# Altium footprint library IPC.PcbLib: 87 footprints (part 3 of 6)
Each footprint in its own frame and in the unit in brackets; x right, y up, seen from the top. Pads: shape width x height; smd on the part's side, far side on the other; paste and mask are expansions set on the pad; w line width, h text height; cw(c..) or ccw(c..) is an arc to the next point about the centre after c.
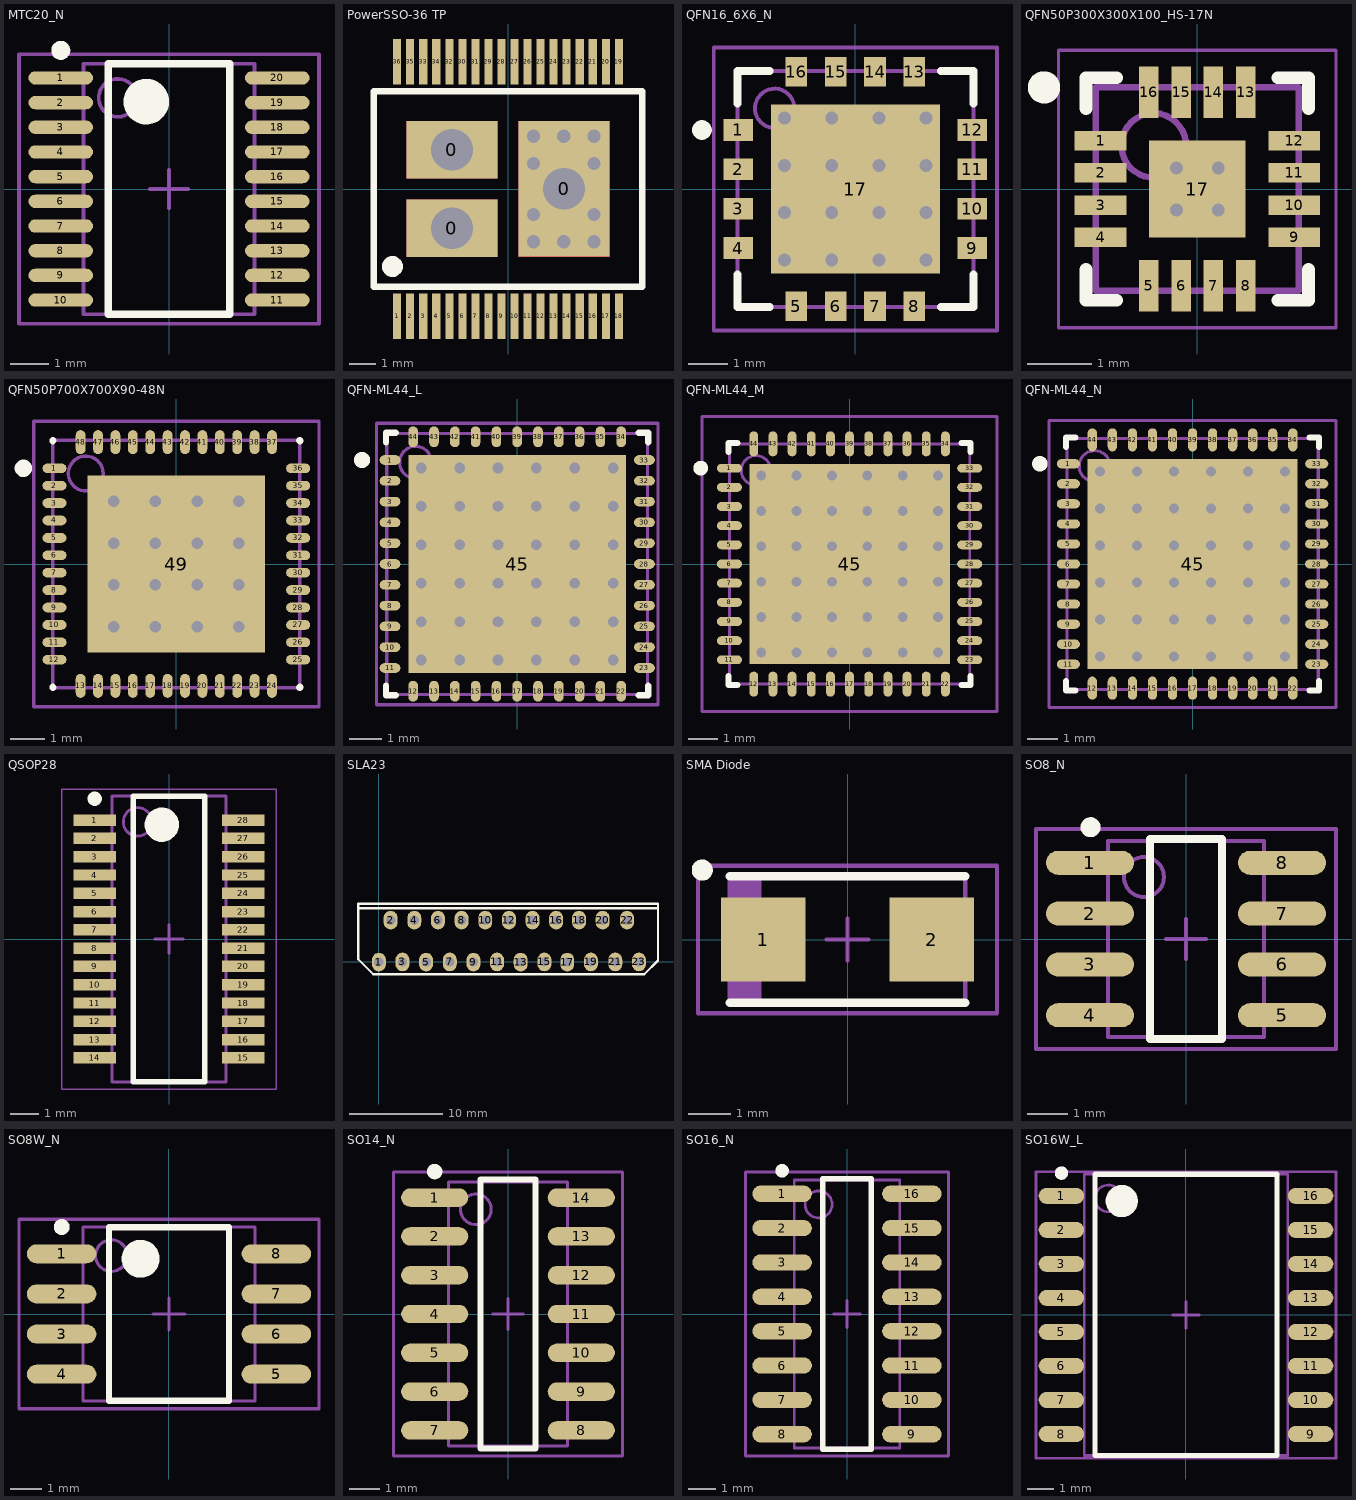
[diagram p2: the footprints below, top view; thin cyan lines are the x and y axes]

## MTC20_N [mm] "TSOP, 20-Leads, Body 6.5x4.4mm, Pitch 0.65mm, IPC Medium Density"
height 1.1
pads (20):
  oval 1.7x0.35 smd: 1(-2.85,2.925) 2(-2.85,2.275) 3(-2.85,1.625) 4(-2.85,0.975) 5(-2.85,0.325) 6(-2.85,-0.325) 7(-2.85,-0.975) 8(-2.85,-1.625) 9(-2.85,-2.275) 10(-2.85,-2.925) 11(2.85,-2.925) 12(2.85,-2.275) 13(2.85,-1.625) 14(2.85,-0.975) 15(2.85,-0.325) 16(2.85,0.325) 17(2.85,0.975) 18(2.85,1.625) 19(2.85,2.275) 20(2.85,2.925)
Top Overlay:
  circle w0.6: c-0.6,2.3 r0.3
  circle w0.25: c-2.85,3.65 r0.125
  lines w0.2: -1.6,-3.3 1.6,-3.3 1.6,3.3 -1.6,3.3 -1.6,-3.3
3D Bodie:
  circle w0.1: c-1.35,2.4 r0.5
  lines w0.1: -2.25,-3.3 2.25,-3.3 2.25,3.3 -2.25,3.3 -2.25,-3.3
Mechanical 15:
  lines w0.1: -0.5,0 0.5,0 ; 0,-0.5 0,0.5 ; -3.95,-3.55 3.95,-3.55 3.95,3.55 -3.95,3.55 -3.95,-3.55
3D body: height 1.1, standoff 0, extent -2.25,-3.3 2.25,3.3
3D body: height 1.2, standoff 0, extent -3.248,-3.3 3.302,3.3

## PowerSSO-36 TP [mm] "PowerSSO-36 TP"
height 2.47
pads (39):
  rect 3.5x2.2 hole 1.6: 0(-2.15,-1.5) 0(-2.15,1.5)
  rect 3.5x5.2 hole 1.6: 0(2.15,0.01)
  rect 0.31x1.75 smd: 1(-4.25,-4.875) 2(-3.75,-4.875) 3(-3.25,-4.875) 4(-2.75,-4.875) 5(-2.25,-4.875) 6(-1.75,-4.875) 7(-1.25,-4.875) 8(-0.75,-4.875) 9(-0.25,-4.875) 10(0.25,-4.875) 11(0.75,-4.875) 12(1.25,-4.875) 13(1.75,-4.875) 14(2.25,-4.875) 15(2.75,-4.875) 16(3.25,-4.875) 17(3.75,-4.875) 18(4.25,-4.875) 19(4.25,4.875) 20(3.75,4.875) 21(3.25,4.875) 22(2.75,4.875) 23(2.25,4.875) 24(1.75,4.875) 25(1.25,4.875) 26(0.75,4.875) 27(0.25,4.875) 28(-0.25,4.875) 29(-0.75,4.875) 30(-1.75,4.875) 31(-1.25,4.875) 32(-2.25,4.875) 33(-3.25,4.875) 34(-2.75,4.875) 35(-3.75,4.875) 36(-4.25,4.875)
via 3.3,0.98 diameter 1.016 hole 0.508
via 0.98,0.98 diameter 1.016 hole 0.508
via 0.98,2.02 diameter 1.016 hole 0.508
via 3.3,2.02 diameter 1.016 hole 0.508
via 2.14,2.02 diameter 1.016 hole 0.508
via 3.3,-0.98 diameter 1.016 hole 0.508
via 0.98,-0.98 diameter 1.016 hole 0.508
via 0.98,-2.02 diameter 1.016 hole 0.508
via 3.3,-2.02 diameter 1.016 hole 0.508
via 2.14,-2.02 diameter 1.016 hole 0.508
Top Layer:
  rectangle: -3.9,-2.6 -0.4,-0.4
  rectangle: -3.9,0.4 -0.4,2.6
  rectangle: 0.4,-2.6 3.9,2.6
Bottom Layer:
  rectangle: 0.4,-2.6 3.9,2.6
  rectangle: -3.9,-2.6 -0.4,-0.4
  rectangle: -3.9,0.4 -0.4,2.6
Top Overlay:
  circle w0.4: c-4.43,-2.97 r0.2
  lines w0.254: -5.15,-3.75 -5.15,3.75 5.15,3.75 5.15,-3.75 -5.15,-3.75
3D body: height 2.33, standoff 0, extent -5.15,-5.169 5.15,5.169

## QFN16_6X6_N [mm] "QFN, 16-Leads, Body 6,0x6,0mm (max), Pitch 1,00mm, IPC Medium Density"
height 1.55
pads (17):
  rect 0.75x0.55 smd: 1(-2.975,1.5) 2(-2.975,0.5) 3(-2.975,-0.5) 4(-2.975,-1.5) 9(2.975,-1.5) 10(2.975,-0.5) 11(2.975,0.5) 12(2.975,1.5)
  rect 0.55x0.75 smd: 5(-1.5,-2.975) 6(-0.5,-2.975) 7(0.5,-2.975) 8(1.5,-2.975) 13(1.5,2.975) 14(0.5,2.975) 15(-0.5,2.975) 16(-1.5,2.975)
  rect 4.3x4.3 smd: 17(0,0)
via -1.8,1.8 diameter 0.66 hole 0.33
via -0.6,1.8 diameter 0.66 hole 0.33
via 0.6,1.8 diameter 0.66 hole 0.33
via 1.8,1.8 diameter 0.66 hole 0.33
via -1.8,0.6 diameter 0.66 hole 0.33
via -0.6,0.6 diameter 0.66 hole 0.33
via 0.6,0.6 diameter 0.66 hole 0.33
via 1.8,0.6 diameter 0.66 hole 0.33
via -1.8,-0.6 diameter 0.66 hole 0.33
via -0.6,-0.6 diameter 0.66 hole 0.33
via 0.6,-0.6 diameter 0.66 hole 0.33
via 1.8,-0.6 diameter 0.66 hole 0.33
via -1.8,-1.8 diameter 0.66 hole 0.33
via -0.6,-1.8 diameter 0.66 hole 0.33
via 0.6,-1.8 diameter 0.66 hole 0.33
via 1.8,-1.8 diameter 0.66 hole 0.33
Top Overlay:
  circle w0.25: c-3.9,1.5 r0.125
  lines w0.2: -3,-2.175 -3,-3 -2.175,-3 ; -3,2.175 -3,3 -2.175,3 ; 2.175,-3 3,-3 3,-2.175 ; 2.175,3 3,3 3,2.175
3D Bodie:
  circle w0.1: c-2.05,2.05 r0.5
  lines w0.1: -3,-3 -3,3 3,3 3,-3 -3,-3
Mechanical 15:
  lines w0.1: -0.5,0 0.5,0 ; 0,-0.5 0,0.5 ; -3.6,-3.6 -3.6,3.6 3.6,3.6 3.6,-3.6 -3.6,-3.6
3D body: height 1.55, standoff 0.01, extent -3,-3 3,3

## QFN50P300X300X100_HS-17N [mm] "QFN, 16-Leads, Body 3,00x3,00mm, Pitch 0,50mm, Thermal Pad 1,80x1,80mm, IPC Medium Density"
height 1
pads (17):
  rect 0.8x0.3 smd: 1(-1.5,0.75) 2(-1.5,0.25) 3(-1.5,-0.25) 4(-1.5,-0.75) 9(1.5,-0.75) 10(1.5,-0.25) 11(1.5,0.25) 12(1.5,0.75)
  rect 0.3x0.8 smd: 5(-0.75,-1.5) 6(-0.25,-1.5) 7(0.25,-1.5) 8(0.75,-1.5) 13(0.75,1.5) 14(0.25,1.5) 15(-0.25,1.5) 16(-0.75,1.5)
  rect 1.5x1.5 smd: 17(0,0)
via 0.325,-0.325 diameter 0.5 hole 0.2
via -0.325,-0.325 diameter 0.5 hole 0.2
via 0.325,0.325 diameter 0.5 hole 0.2
via -0.325,0.325 diameter 0.5 hole 0.2
Top Overlay:
  circle w0.25: c-2.375,1.575 r0.125
  lines w0.2: -1.725,-1.25 -1.725,-1.725 -1.25,-1.725 ; -1.725,1.25 -1.725,1.725 -1.25,1.725 ; 1.25,-1.725 1.725,-1.725 1.725,-1.25 ; 1.25,1.725 1.725,1.725 1.725,1.25
3D Bodie:
  circle w0.1: c-0.675,0.675 r0.5
  lines w0.1: -1.575,-1.575 1.575,-1.575 1.575,1.575 -1.575,1.575 -1.575,-1.575
Mechanical 15:
  lines w0.05: -2.15,-2.15 2.15,-2.15 2.15,2.15 -2.15,2.15 -2.15,-2.15
  lines w0.1: -0.5,0 0.5,0 ; 0,-0.5 0,0.5
3D body: height 1, standoff 0.02, extent -1.575,-1.575 1.575,1.575

## QFN50P700X700X90-48N [mm] "QFN, 48-Leads, Body 7,1x7,1mm (max), Pitch 0,50mm, IPC Medium Density"
height 0.9
pads (49):
  oval 0.69x0.28 smd: 1(-3.5,2.75) 2(-3.5,2.25) 3(-3.5,1.75) 4(-3.5,1.25) 5(-3.5,0.75) 6(-3.5,0.25) 7(-3.5,-0.25) 8(-3.5,-0.75) 9(-3.5,-1.25) 10(-3.5,-1.75) 11(-3.5,-2.25) 12(-3.5,-2.75) 25(3.5,-2.75) 26(3.5,-2.25) 27(3.5,-1.75) 28(3.5,-1.25) 29(3.5,-0.75) 30(3.5,-0.25) 31(3.5,0.25) 32(3.5,0.75) 33(3.5,1.25) 34(3.5,1.75) 35(3.5,2.25) 36(3.5,2.75)
  oval 0.28x0.69 smd: 13(-2.75,-3.5) 14(-2.25,-3.5) 15(-1.75,-3.5) 16(-1.25,-3.5) 17(-0.75,-3.5) 18(-0.25,-3.5) 19(0.25,-3.5) 20(0.75,-3.5) 21(1.25,-3.5) 22(1.75,-3.5) 23(2.25,-3.5) 24(2.75,-3.5) 37(2.75,3.5) 38(2.25,3.5) 39(1.75,3.5) 40(1.25,3.5) 41(0.75,3.5) 42(0.25,3.5) 43(-0.25,3.5) 44(-0.75,3.5) 45(-1.25,3.5) 46(-1.75,3.5) 47(-2.25,3.5) 48(-2.75,3.5)
  rect 5.1x5.1 smd: 49(0,0)
via -1.8,1.8 diameter 0.66 hole 0.33
via -0.6,1.8 diameter 0.66 hole 0.33
via 0.6,1.8 diameter 0.66 hole 0.33
via 1.8,1.8 diameter 0.66 hole 0.33
via -1.8,0.6 diameter 0.66 hole 0.33
via -0.6,0.6 diameter 0.66 hole 0.33
via 0.6,0.6 diameter 0.66 hole 0.33
via 1.8,0.6 diameter 0.66 hole 0.33
via -1.8,-0.6 diameter 0.66 hole 0.33
via -0.6,-0.6 diameter 0.66 hole 0.33
via 0.6,-0.6 diameter 0.66 hole 0.33
via 1.8,-0.6 diameter 0.66 hole 0.33
via -1.8,-1.8 diameter 0.66 hole 0.33
via -0.6,-1.8 diameter 0.66 hole 0.33
via 0.6,-1.8 diameter 0.66 hole 0.33
via 1.8,-1.8 diameter 0.66 hole 0.33
Top Overlay:
  circle w0.25: c-4.395,2.75 r0.125
  lines w0.2: -3.55,-3.54 -3.55,-3.55 -3.54,-3.55 ; -3.55,3.54 -3.55,3.55 -3.54,3.55 ; 3.54,-3.55 3.55,-3.55 3.55,-3.54 ; 3.54,3.55 3.55,3.55 3.55,3.54
3D Bodie:
  circle w0.1: c-2.6,2.6 r0.5
  lines w0.1: -3.55,-3.55 -3.55,3.55 3.55,3.55 3.55,-3.55 -3.55,-3.55
Mechanical 15:
  lines w0.1: -0.5,0 0.5,0 ; 0,-0.5 0,0.5 ; -4.1,-4.1 -4.1,4.1 4.1,4.1 4.1,-4.1 -4.1,-4.1
3D body: height 0.9, standoff 0.01, extent -3.55,-3.55 3.55,3.55

## QFN-ML44_L [mm] "QFN, 44-Leads, Body 8x8 mm, Pitch 0.65mm, IPC High Density"
height 1
pads (45):
  oval 0.65x0.3 smd: 1(-3.975,3.25) 2(-3.975,2.6) 3(-3.975,1.95) 4(-3.975,1.3) 5(-3.975,0.65) 6(-3.975,0) 7(-3.975,-0.65) 8(-3.975,-1.3) 9(-3.975,-1.95) 10(-3.975,-2.6) 11(-3.975,-3.25) 23(3.975,-3.25) 24(3.975,-2.6) 25(3.975,-1.95) 26(3.975,-1.3) 27(3.975,-0.65) 28(3.975,0) 29(3.975,0.65) 30(3.975,1.3) 31(3.975,1.95) 32(3.975,2.6) 33(3.975,3.25)
  oval 0.3x0.65 smd: 12(-3.25,-3.975) 13(-2.6,-3.975) 14(-1.95,-3.975) 15(-1.3,-3.975) 16(-0.65,-3.975) 17(0,-3.975) 18(0.65,-3.975) 19(1.3,-3.975) 20(1.95,-3.975) 21(2.6,-3.975) 22(3.25,-3.975) 34(3.25,3.975) 35(2.6,3.975) 36(1.95,3.975) 37(1.3,3.975) 38(0.65,3.975) 39(0,3.975) 40(-0.65,3.975) 41(-1.3,3.975) 42(-1.95,3.975) 43(-2.6,3.975) 44(-3.25,3.975)
  rect 6.8x6.8 smd: 45(0,0)
via -3,3 diameter 0.66 hole 0.33
via -1.8,3 diameter 0.66 hole 0.33
via -0.6,3 diameter 0.66 hole 0.33
via 0.6,3 diameter 0.66 hole 0.33
via 1.8,3 diameter 0.66 hole 0.33
via 3,3 diameter 0.66 hole 0.33
via -3,1.8 diameter 0.66 hole 0.33
via -1.8,1.8 diameter 0.66 hole 0.33
via -0.6,1.8 diameter 0.66 hole 0.33
via 0.6,1.8 diameter 0.66 hole 0.33
via 1.8,1.8 diameter 0.66 hole 0.33
via 3,1.8 diameter 0.66 hole 0.33
via -3,0.6 diameter 0.66 hole 0.33
via -1.8,0.6 diameter 0.66 hole 0.33
via -0.6,0.6 diameter 0.66 hole 0.33
via 0.6,0.6 diameter 0.66 hole 0.33
via 1.8,0.6 diameter 0.66 hole 0.33
via 3,0.6 diameter 0.66 hole 0.33
via -3,-0.6 diameter 0.66 hole 0.33
via -1.8,-0.6 diameter 0.66 hole 0.33
via -0.6,-0.6 diameter 0.66 hole 0.33
via 0.6,-0.6 diameter 0.66 hole 0.33
via 1.8,-0.6 diameter 0.66 hole 0.33
via 3,-0.6 diameter 0.66 hole 0.33
via -3,-1.8 diameter 0.66 hole 0.33
via -1.8,-1.8 diameter 0.66 hole 0.33
via -0.6,-1.8 diameter 0.66 hole 0.33
via 0.6,-1.8 diameter 0.66 hole 0.33
via 1.8,-1.8 diameter 0.66 hole 0.33
via 3,-1.8 diameter 0.66 hole 0.33
via -3,-3 diameter 0.66 hole 0.33
via -1.8,-3 diameter 0.66 hole 0.33
via -0.6,-3 diameter 0.66 hole 0.33
via 0.6,-3 diameter 0.66 hole 0.33
via 1.8,-3 diameter 0.66 hole 0.33
via 3,-3 diameter 0.66 hole 0.33
Top Overlay:
  circle w0.25: c-4.85,3.25 r0.125
  lines w0.2: -4.1,-3.8 -4.1,-4.1 -3.8,-4.1 ; -4.1,3.8 -4.1,4.1 -3.8,4.1 ; 3.8,-4.1 4.1,-4.1 4.1,-3.8 ; 3.8,4.1 4.1,4.1 4.1,3.8
3D Bodie:
  circle w0.1: c-3.175,3.175 r0.5
  lines w0.1: -4.075,-4.075 -4.075,4.075 4.075,4.075 4.075,-4.075 -4.075,-4.075
Mechanical 15:
  lines w0.1: -0.5,0 0.5,0 ; 0,-0.5 0,0.5 ; -4.4,-4.4 -4.4,4.4 4.4,4.4 4.4,-4.4 -4.4,-4.4
3D body: height 1, standoff 0, extent -4.075,-4.075 4.075,4.075
3D body: height 0.89, standoff 0, extent -4.013,-4.013 3.988,3.988

## QFN-ML44_M [mm] "QFN, 44-Leads, Body 8x8 mm, Pitch 0.65mm, IPC Low Density"
height 1
pads (45):
  oval 0.85x0.3 smd: 1(-4.075,3.25) 2(-4.075,2.6) 3(-4.075,1.95) 4(-4.075,1.3) 5(-4.075,0.65) 6(-4.075,0) 7(-4.075,-0.65) 8(-4.075,-1.3) 9(-4.075,-1.95) 10(-4.075,-2.6) 11(-4.075,-3.25) 23(4.075,-3.25) 24(4.075,-2.6) 25(4.075,-1.95) 26(4.075,-1.3) 27(4.075,-0.65) 28(4.075,0) 29(4.075,0.65) 30(4.075,1.3) 31(4.075,1.95) 32(4.075,2.6) 33(4.075,3.25)
  oval 0.3x0.85 smd: 12(-3.25,-4.075) 13(-2.6,-4.075) 14(-1.95,-4.075) 15(-1.3,-4.075) 16(-0.65,-4.075) 17(0,-4.075) 18(0.65,-4.075) 19(1.3,-4.075) 20(1.95,-4.075) 21(2.6,-4.075) 22(3.25,-4.075) 34(3.25,4.075) 35(2.6,4.075) 36(1.95,4.075) 37(1.3,4.075) 38(0.65,4.075) 39(0,4.075) 40(-0.65,4.075) 41(-1.3,4.075) 42(-1.95,4.075) 43(-2.6,4.075) 44(-3.25,4.075)
  rect 6.8x6.8 smd: 45(0,0)
via 3,-3 diameter 0.66 hole 0.33
via 1.8,-3 diameter 0.66 hole 0.33
via 0.6,-3 diameter 0.66 hole 0.33
via -0.6,-3 diameter 0.66 hole 0.33
via -1.8,-3 diameter 0.66 hole 0.33
via -3,-3 diameter 0.66 hole 0.33
via 3,-1.8 diameter 0.66 hole 0.33
via 1.8,-1.8 diameter 0.66 hole 0.33
via 0.6,-1.8 diameter 0.66 hole 0.33
via -0.6,-1.8 diameter 0.66 hole 0.33
via -1.8,-1.8 diameter 0.66 hole 0.33
via -3,-1.8 diameter 0.66 hole 0.33
via 3,-0.6 diameter 0.66 hole 0.33
via 1.8,-0.6 diameter 0.66 hole 0.33
via 0.6,-0.6 diameter 0.66 hole 0.33
via -0.6,-0.6 diameter 0.66 hole 0.33
via -1.8,-0.6 diameter 0.66 hole 0.33
via -3,-0.6 diameter 0.66 hole 0.33
via 3,0.6 diameter 0.66 hole 0.33
via 1.8,0.6 diameter 0.66 hole 0.33
via 0.6,0.6 diameter 0.66 hole 0.33
via -0.6,0.6 diameter 0.66 hole 0.33
via -1.8,0.6 diameter 0.66 hole 0.33
via -3,0.6 diameter 0.66 hole 0.33
via 3,1.8 diameter 0.66 hole 0.33
via 1.8,1.8 diameter 0.66 hole 0.33
via 0.6,1.8 diameter 0.66 hole 0.33
via -0.6,1.8 diameter 0.66 hole 0.33
via -1.8,1.8 diameter 0.66 hole 0.33
via -3,1.8 diameter 0.66 hole 0.33
via 3,3 diameter 0.66 hole 0.33
via 1.8,3 diameter 0.66 hole 0.33
via 0.6,3 diameter 0.66 hole 0.33
via -0.6,3 diameter 0.66 hole 0.33
via -1.8,3 diameter 0.66 hole 0.33
via -3,3 diameter 0.66 hole 0.33
Top Overlay:
  circle w0.25: c-5.05,3.25 r0.125
  lines w0.2: -4.1,-3.8 -4.1,-4.1 -3.8,-4.1 ; -4.1,3.8 -4.1,4.1 -3.8,4.1 ; 3.8,-4.1 4.1,-4.1 4.1,-3.8 ; 3.8,4.1 4.1,4.1 4.1,3.8
3D Bodie:
  circle w0.1: c-3.175,3.175 r0.5
  lines w0.1: -4.075,-4.075 4.075,-4.075 4.075,4.075 -4.075,4.075 -4.075,-4.075
Mechanical 15:
  lines w0.1: -0.5,0 0.5,0 ; 0,-0.5 0,0.5 ; -5,-5 5,-5 5,5 -5,5 -5,-5
3D body: height 0.89, standoff 0, extent -4.001,-4.013 4,3.988

## QFN-ML44_N [mm] "QFN, 44-Leads, Body 8x8 mm, Pitch 0.65mm, IPC Medium Density"
height 1
pads (45):
  oval 0.75x0.3 smd: 1(-4.025,3.25) 2(-4.025,2.6) 3(-4.025,1.95) 4(-4.025,1.3) 5(-4.025,0.65) 6(-4.025,0) 7(-4.025,-0.65) 8(-4.025,-1.3) 9(-4.025,-1.95) 10(-4.025,-2.6) 11(-4.025,-3.25) 23(4.025,-3.25) 24(4.025,-2.6) 25(4.025,-1.95) 26(4.025,-1.3) 27(4.025,-0.65) 28(4.025,0) 29(4.025,0.65) 30(4.025,1.3) 31(4.025,1.95) 32(4.025,2.6) 33(4.025,3.25)
  oval 0.3x0.75 smd: 12(-3.25,-4.025) 13(-2.6,-4.025) 14(-1.95,-4.025) 15(-1.3,-4.025) 16(-0.65,-4.025) 17(0,-4.025) 18(0.65,-4.025) 19(1.3,-4.025) 20(1.95,-4.025) 21(2.6,-4.025) 22(3.25,-4.025) 34(3.25,4.025) 35(2.6,4.025) 36(1.95,4.025) 37(1.3,4.025) 38(0.65,4.025) 39(0,4.025) 40(-0.65,4.025) 41(-1.3,4.025) 42(-1.95,4.025) 43(-2.6,4.025) 44(-3.25,4.025)
  rect 6.8x6.8 smd: 45(0,0)
via -3,3 diameter 0.66 hole 0.33
via -1.8,3 diameter 0.66 hole 0.33
via -0.6,3 diameter 0.66 hole 0.33
via 0.6,3 diameter 0.66 hole 0.33
via 1.8,3 diameter 0.66 hole 0.33
via 3,3 diameter 0.66 hole 0.33
via -3,1.8 diameter 0.66 hole 0.33
via -1.8,1.8 diameter 0.66 hole 0.33
via -0.6,1.8 diameter 0.66 hole 0.33
via 0.6,1.8 diameter 0.66 hole 0.33
via 1.8,1.8 diameter 0.66 hole 0.33
via 3,1.8 diameter 0.66 hole 0.33
via -3,0.6 diameter 0.66 hole 0.33
via -1.8,0.6 diameter 0.66 hole 0.33
via -0.6,0.6 diameter 0.66 hole 0.33
via 0.6,0.6 diameter 0.66 hole 0.33
via 1.8,0.6 diameter 0.66 hole 0.33
via 3,0.6 diameter 0.66 hole 0.33
via -3,-0.6 diameter 0.66 hole 0.33
via -1.8,-0.6 diameter 0.66 hole 0.33
via -0.6,-0.6 diameter 0.66 hole 0.33
via 0.6,-0.6 diameter 0.66 hole 0.33
via 1.8,-0.6 diameter 0.66 hole 0.33
via 3,-0.6 diameter 0.66 hole 0.33
via -3,-1.8 diameter 0.66 hole 0.33
via -1.8,-1.8 diameter 0.66 hole 0.33
via -0.6,-1.8 diameter 0.66 hole 0.33
via 0.6,-1.8 diameter 0.66 hole 0.33
via 1.8,-1.8 diameter 0.66 hole 0.33
via 3,-1.8 diameter 0.66 hole 0.33
via -3,-3 diameter 0.66 hole 0.33
via -1.8,-3 diameter 0.66 hole 0.33
via -0.6,-3 diameter 0.66 hole 0.33
via 0.6,-3 diameter 0.66 hole 0.33
via 1.8,-3 diameter 0.66 hole 0.33
via 3,-3 diameter 0.66 hole 0.33
Top Overlay:
  circle w0.25: c-4.95,3.25 r0.125
  lines w0.2: -4.1,-3.8 -4.1,-4.1 -3.8,-4.1 ; -4.1,3.8 -4.1,4.1 -3.8,4.1 ; 3.8,-4.1 4.1,-4.1 4.1,-3.8 ; 3.8,4.1 4.1,4.1 4.1,3.8
3D Bodie:
  circle w0.1: c-3.175,3.175 r0.5
  lines w0.1: -4.075,-4.075 -4.075,4.075 4.075,4.075 4.075,-4.075 -4.075,-4.075
Mechanical 15:
  lines w0.1: -0.5,0 0.5,0 ; 0,-0.5 0,0.5 ; -4.65,-4.65 -4.65,4.65 4.65,4.65 4.65,-4.65 -4.65,-4.65
3D body: height 1, standoff 0, extent -4.075,-4.075 4.075,4.075
3D body: height 0.89, standoff 0, extent -4.001,-3.988 4,4.013

## QSOP28 [mm] "SOP, 28-Leads, Body 9,89x3,89mm, Pitch 0,64mm, IPC Medium Density"
height 1.75
pads (28):
  rect 1.5x0.4 smd: 1(-2.6,4.16) 2(-2.6,3.52) 3(-2.6,2.88) 4(-2.6,2.24) 5(-2.6,1.6) 6(-2.6,0.96) 7(-2.6,0.32) 8(-2.6,-0.32) 9(-2.6,-0.96) 10(-2.6,-1.6) 11(-2.6,-2.24) 12(-2.6,-2.88) 13(-2.6,-3.52) 14(-2.6,-4.16) 15(2.6,-4.16) 16(2.6,-3.52) 17(2.6,-2.88) 18(2.6,-2.24) 19(2.6,-1.6) 20(2.6,-0.96) 21(2.6,-0.32) 22(2.6,0.32) 23(2.6,0.96) 24(2.6,1.6) 25(2.6,2.24) 26(2.6,2.88) 27(2.6,3.52) 28(2.6,4.16)
Top Overlay:
  circle w0.25: c-2.6,4.91 r0.125
  circle w0.6: c-0.25,4 r0.3
  lines w0.2: -1.25,-5 -1.25,5 1.25,5 1.25,-5 -1.25,-5
3D Bodie:
  circle w0.1: c-1.1,4.1 r0.5
  lines w0.1: -2,-5 -2,5 2,5 2,-5 -2,-5
Mechanical 15:
  lines w0.05: -3.75,-5.25 -3.75,5.25 3.75,5.25 3.75,-5.25 -3.75,-5.25
  lines w0.1: -0.5,0 0.5,0 ; 0,-0.5 0,0.5
3D body: height 1.75, standoff 0.1, extent -2,-5 2,5

## SLA23 [mm]
pads (23):
  oval 1.5x2 hole 1: 1(0,-0.01) 2(1.27,4.5) 3(2.54,0) 4(3.81,4.5) 5(5.08,-0.01) 6(6.35,4.5) 7(7.62,0) 8(8.89,4.5) 9(10.16,-0.01) 10(11.43,4.5) 11(12.7,0) 12(13.97,4.5) 13(15.24,-0.01) 14(16.51,4.5) 15(17.78,0) 16(19.05,4.5) 17(20.24,-0.01) 18(21.51,4.5) 19(22.78,0) 20(24.05,4.5) 21(25.4,0) 22(26.67,4.5) 23(27.94,0)
Top Overlay:
  lines w0.254: -2.24,5.79 29.96,5.79 ; -2.21,0.3 -0.6,-1.31 28.52,-1.31 29.99,0.16 29.99,6.25 -2.21,6.25 -2.21,0.3

## SMA Diode [mm] "Case 403D-02"
height 2.41
pads (2):
  rect 2x2 smd: 1(-2,0) 2(2,0)
Top Overlay:
  circle w0.25: c-3.45,1.65 r0.125
  lines w0.2: -2.8,-1.5 2.8,-1.5 ; -2.8,1.5 2.8,1.5
3D Bodie:
  rectangle: -2.795,-1.46 -2.043,1.46
  lines w0.1: -2.795,-1.46 2.795,-1.46 2.795,1.46 -2.795,1.46 -2.795,-1.46
Mechanical 15:
  lines w0.1: -0.5,0 0.5,0 ; 0,-0.5 0,0.5 ; -3.55,-1.75 3.55,-1.75 3.55,1.75 -3.55,1.75 -3.55,-1.75
3D body: height 2.41, standoff 0, extent -2.795,-1.46 2.795,1.46
3D body: height 2.4, standoff 0, extent -2.6,-1.295 2.6,1.305

## SO8_N [mm] "8-Pin Small Outline Integrated Circuit 1.27 mm Pitch, IPC Medium Density"
height 1.75
pads (8):
  oval 2.2x0.6 smd: 1(-2.4,1.905) 2(-2.4,0.635) 3(-2.4,-0.635) 4(-2.4,-1.905) 5(2.4,-1.905) 6(2.4,-0.635) 7(2.4,0.635) 8(2.4,1.905)
Top Overlay:
  circle w0.25: c-2.386,2.794 r0.125
  lines w0.2: -0.9,-2.5 0.9,-2.5 0.9,2.5 -0.9,2.5 -0.9,-2.5
3D Bodie:
  circle w0.1: c-1.05,1.55 r0.5
  lines w0.1: -1.95,-2.45 1.95,-2.45 1.95,2.45 -1.95,2.45 -1.95,-2.45
Mechanical 15:
  lines w0.1: -0.5,0 0.5,0 ; 0,-0.5 0,0.5 ; -3.75,-2.75 3.75,-2.75 3.75,2.75 -3.75,2.75 -3.75,-2.75
3D body: height 1.75, standoff 0, extent -1.95,-2.45 1.95,2.45
3D body: height 1.45, standoff 0, extent -2.889,-2.438 2.889,2.464

## SO8W_N [mm] "SOP, 8-Leads, Body 5.3x5.3mm, Pitch 1.27mm, IPC Medium Density"
height 2.13
pads (8):
  oval 2.2x0.6 smd: 1(-3.4,1.905) 2(-3.4,0.635) 3(-3.4,-0.635) 4(-3.4,-1.905) 5(3.4,-1.905) 6(3.4,-0.635) 7(3.4,0.635) 8(3.4,1.905)
Top Overlay:
  circle w0.6: c-0.9,1.75 r0.3
  circle w0.25: c-3.4,2.755 r0.125
  lines w0.2: -1.9,-2.75 1.9,-2.75 1.9,2.75 -1.9,2.75 -1.9,-2.75
3D Bodie:
  circle w0.1: c-1.825,1.85 r0.5
  lines w0.1: -2.725,-2.75 2.725,-2.75 2.725,2.75 -2.725,2.75 -2.725,-2.75
Mechanical 15:
  lines w0.1: -0.5,0 0.5,0 ; 0,-0.5 0,0.5 ; -4.75,-3 4.75,-3 4.75,3 -4.75,3 -4.75,-3
3D body: height 2.13, standoff 0, extent -2.725,-2.75 2.725,2.75

## SO14_N [mm] "14-Pin Small Outline Integrated Circuit 1.27 mm Pitch, IPC Medium Density"
height 1.75
pads (14):
  oval 2.2x0.6 smd: 1(-2.4,3.81) 2(-2.4,2.54) 3(-2.4,1.27) 4(-2.4,0) 5(-2.4,-1.27) 6(-2.4,-2.54) 7(-2.4,-3.81) 8(2.4,-3.81) 9(2.4,-2.54) 10(2.4,-1.27) 11(2.4,0) 12(2.4,1.27) 13(2.4,2.54) 14(2.4,3.81)
Top Overlay:
  circle w0.25: c-2.4,4.66 r0.125
  lines w0.2: -0.9,-4.4 0.9,-4.4 0.9,4.4 -0.9,4.4 -0.9,-4.4
3D Bodie:
  circle w0.1: c-1.05,3.425 r0.5
  lines w0.1: -1.95,-4.325 1.95,-4.325 1.95,4.325 -1.95,4.325 -1.95,-4.325
Mechanical 15:
  lines w0.1: -0.5,0 0.5,0 ; 0,-0.5 0,0.5 ; -3.75,-4.65 3.75,-4.65 3.75,4.65 -3.75,4.65 -3.75,-4.65
3D body: height 1.75, standoff 0, extent -1.95,-4.325 1.95,4.325
3D body: height 1.75, standoff 0, extent -2.896,-4.283 2.904,4.267

## SO16_N [mm] "16-Pin Small Outline Integrated Circuit 1.27 mm Pitch, IPC Medium Density"
height 1.75
pads (16):
  oval 2.2x0.6 smd: 1(-2.4,4.445) 2(-2.4,3.175) 3(-2.4,1.905) 4(-2.4,0.635) 5(-2.4,-0.635) 6(-2.4,-1.905) 7(-2.4,-3.175) 8(-2.4,-4.445) 9(2.4,-4.445) 10(2.4,-3.175) 11(2.4,-1.905) 12(2.4,-0.635) 13(2.4,0.635) 14(2.4,1.905) 15(2.4,3.175) 16(2.4,4.445)
Top Overlay:
  circle w0.25: c-2.4,5.295 r0.125
  lines w0.2: -0.9,-5 -0.9,5 0.9,5 0.9,-5 -0.9,-5
3D Bodie:
  circle w0.1: c-1.05,4.05 r0.5
  lines w0.1: -1.95,-4.95 -1.95,4.95 1.95,4.95 1.95,-4.95 -1.95,-4.95
Mechanical 15:
  lines w0.1: -0.5,0 0.5,0 ; 0,-0.5 0,0.5 ; -3.75,-5.25 -3.75,5.25 3.75,5.25 3.75,-5.25 -3.75,-5.25
3D body: height 1.75, standoff 0, extent -1.95,-4.95 1.95,4.95
3D body: height 1.45, standoff 0, extent -2.953,-5.004 2.953,4.978

## SO16W_L [mm] "SOIC, 16-Leads, Body 10.3x7.5mm, Pitch 1.27mm, IPC High Density"
height 2.67
pads (16):
  oval 1.7x0.6 smd: 1(-4.65,4.445) 2(-4.65,3.175) 3(-4.65,1.905) 4(-4.65,0.635) 5(-4.65,-0.635) 6(-4.65,-1.905) 7(-4.65,-3.175) 8(-4.65,-4.445) 9(4.65,-4.445) 10(4.65,-3.175) 11(4.65,-1.905) 12(4.65,-0.635) 13(4.65,0.635) 14(4.65,1.905) 15(4.65,3.175) 16(4.65,4.445)
Top Overlay:
  circle w0.6: c-2.4,4.25 r0.3
  circle w0.25: c-4.65,5.295 r0.125
  lines w0.2: -3.4,-5.25 3.4,-5.25 3.4,5.25 -3.4,5.25 -3.4,-5.25
3D Bodie:
  circle w0.1: c-2.9,4.35 r0.5
  lines w0.1: -3.8,-5.25 3.8,-5.25 3.8,5.25 -3.8,5.25 -3.8,-5.25
Mechanical 15:
  lines w0.1: -0.5,0 0.5,0 ; 0,-0.5 0,0.5 ; -5.6,-5.35 5.6,-5.35 5.6,5.35 -5.6,5.35 -5.6,-5.35
3D body: height 2.67, standoff 0, extent -3.8,-5.25 3.8,5.25
3D body: height 2.65, standoff 0, extent -5.156,-5.156 5.144,5.144